# Altium schematic symbol library Components - 23.10.24 - 13.44.SchLib: 1 symbol
Pins are listed as number, name and electrical type; pins without a type are passive.

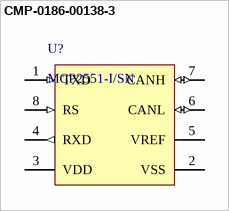
[diagram p0: symbol CMP-0186-00138-3]

## CMP-0186-00138-3
designator U?, comment MCP2551-I/SN
High-Speed CAN Transceiver, / 1 Mb/s, 4.5 to 5.5 V, 8-Pin SOIC (SN), Industrial Temperature, RoHS, Tube; Manufacturer: Microchip; RoHSCompliant: true; PackageReference: SN8; ComponentLink1URL: http://www.microchip.com/; DatasheetVersion: Rev. F, 07/2010; ComponentLink2Description: Datasheet; ComponentLink2URL: http://ww1.microchip.com/downloads/en/DeviceDoc/21667f.pdf; ComponentLink3Description: Package Specification; PackageDescription: 8-Pin Small Outline Integrated Circuit, Body 4.9 x 3.9 mm, Pitch 1.27 mm; ComponentLink1Description: Manufacturer URL; Mounting Technology: Surface Mount; ComponentLink3URL: http://www.microchip.com/stellent/groups/techpub_sg/documents/packagingspec/en012702.pdf
footprint MCHP-SN8_V (SOIC, 8-Leads, Body 4.9x3.9mm, Pitch 1.27mm)
pins: 1 TXD (in) "Transmit Data Input", 2 VSS (power) "Ground", 3 VDD (power) "Supply Voltage", 4 RXD (out) "Receive Data Output", 5 VREF (power) "Reference Output Voltage", 6 CANL (io) "CAN Low-Level Voltage I/O", 7 CANH (io) "CAN High-Level Voltage I/O", 8 RS (in) "Slope-Control Input"